# Altium schematic symbol library TPS7A2601DRV.SchLib: 1 symbol
Pins are listed as number, name and electrical type; pins without a type are passive.

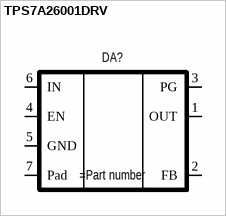
[diagram p0: symbol TPS7A26001DRV]

## TPS7A26001DRV
designator DA?
500-mA, 18-V, Ultra-Low IQ, Low-Dropout Linear Voltage Regulator / With Power-Good
pins: 1 OUT, 2 FB, 3 PG, 4 EN, 5 GND, 6 IN, 7 Pad